# Altium schematic symbol library A-1JB.SchLib: 1 symbol
Pins are listed as number, name and electrical type; pins without a type are passive.

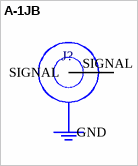
[diagram p0: symbol A-1JB]

## A-1JB
designator J?, comment IPEX antenna connector PCB  (value not drawn)
AMC IPEX Straight PCB Jack, Surface Mount, 2500 pc Reel, 50 Ohm; MP: A-1JB; Package: None; Price: None; Availability: Unavailable; Value: *
footprint AMPHENOL_A-1JB
pins: GND1 GND, GND2 GND, OPTIONAL_GND GND, SIGNAL